# EAGLE library part MPL3115A2 (library gee_s)
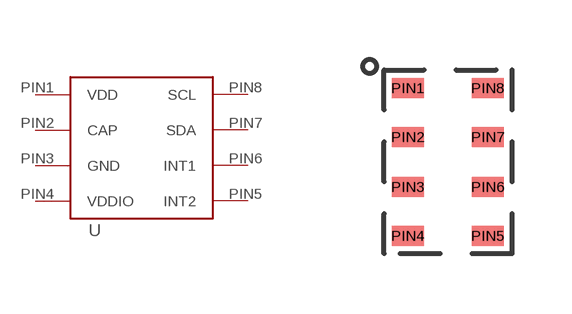
[diagram p3: symbol with the pads of 8-LGA; footprint 8-LGA]

Designator prefix -

## MPL3115A2  [8-LGA]
PIN1  VDD
PIN2  CAP
PIN3  GND
PIN4  VDDIO
PIN5  INT2
PIN6  INT1
PIN7  SDA
PIN8  SCL

## Footprint 8-LGA (pad centres in mm)
smd 0.8 x 0.5: PIN1 -1,1.85; PIN2 -1,0.625; PIN3 -1,-0.625; PIN4 -1,-1.85; PIN5 1,-1.85; PIN6 1,-0.625; PIN7 1,0.625; PIN8 1,1.85